# Altium footprint library Cap_TAN.PcbLib: 5 footprints
Each footprint in its own frame and in the unit in brackets; x right, y up, seen from the top. Pads: shape width x height; smd on the part's side, far side on the other; paste and mask are expansions set on the pad; w line width, h text height; cw(c..) or ccw(c..) is an arc to the next point about the centre after c.
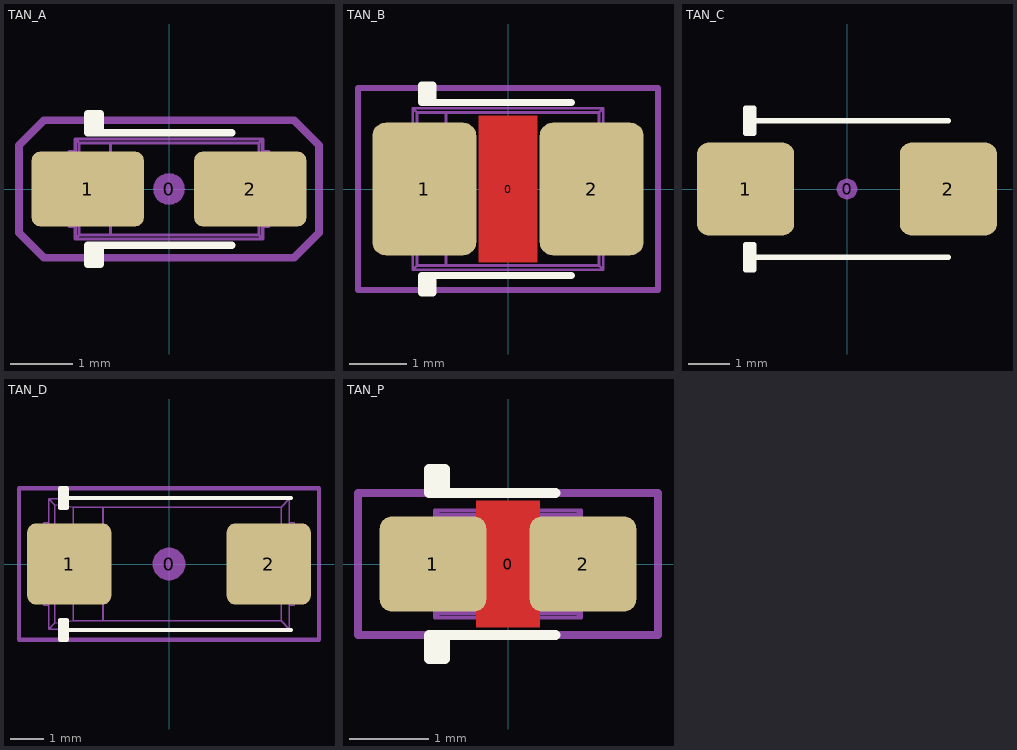
[diagram p0: the footprints below, top view; thin cyan lines are the x and y axes]

## TAN_A [mm] "Capacitor, polarized, Molded Body, EIA 535BAAC size A; 3.20mm L X 1.60mm W X 1.80mm H"
height 1.8
pads (3):
  round 0.508 on Mech15: 0(0,0)
  rrect25% 1.8x1.2 smd: 1(-1.3,0) 2(1.3,0)
Top Overlay:
  lines w0.127: -1.2,-1.2 -1.2,-0.9 ; -1.2,0.9 -1.2,1.2 ; -1.1,-0.9 -1.1,-1.2 -1.3,-1.2 -1.3,-0.9 1,-0.9 ; -1.1,0.9 -1.1,1.2 -1.3,1.2 -1.3,0.9 1,0.9
Mechanical 13:
  lines w0.05: -1.6,-0.36 -1.499,-0.36 ; -1.6,0.36 -1.499,0.36 ; -1.499,-0.6 -1.6,-0.6 -1.6,0.6 -1.499,0.6 ; -0.937,-0.737 -0.937,0.737 ; 1.499,-0.6 1.6,-0.6 1.6,0.6 1.499,0.6 ; 1.499,-0.36 1.6,-0.36 ; 1.499,0.36 1.6,0.36 ; -1.5,-0.8 -1.5,0.8 ; -1.5,-0.8 1.5,-0.8 ; -1.5,-0.8 -1.437,-0.737 ; -1.5,0.8 1.5,0.8 ; -1.5,0.8 -1.437,0.737 ; -1.437,-0.737 -1.437,0.737 ; -1.437,-0.737 1.437,-0.737 ; -1.437,0.737 1.437,0.737 ; 1.437,-0.737 1.437,0.737 ; 1.437,-0.737 1.5,-0.8 ; 1.437,0.737 1.5,0.8 ; 1.5,-0.8 1.5,0.8
Mechanical 15:
  lines w0.127: -2.4,-0.7 -2,-1.1 2,-1.1 2.4,-0.7 2.4,0.7 2,1.1 -2,1.1 -2.4,0.7 -2.4,-0.7
3D body: height 1.8, standoff 0, extent -1.6,-0.8 1.6,0.8

## TAN_B [mm] "Molded body capacitor, Body 3.5x2.8mm, 1210, IPC Nominal settings"
height 2.1
pads (3):
  round 0.254 on Mech15: 0(0,0)
  rrect25% 1.8x2.3 smd: 1(-1.45,0) 2(1.45,0)
Top Layer:
  pour cut-out: -0.508,1.27 0.508,1.27 0.508,-1.27 -0.508,-1.27
Top Overlay:
  lines w0.127: -1.4,-1.8 -1.4,-1.5 ; -1.4,1.5 -1.4,1.8 ; -1.3,-1.5 -1.3,-1.8 -1.5,-1.8 -1.5,-1.5 1.1,-1.5 ; -1.3,1.5 -1.3,1.8 -1.5,1.8 -1.5,1.5 1.1,1.5
Mechanical 13:
  lines w0.05: -1.75,-0.55 -1.65,-0.55 ; -1.75,0.55 -1.65,0.55 ; -1.65,-1.1 -1.75,-1.1 -1.75,1.1 -1.65,1.1 ; -1.077,-1.327 -1.077,1.327 ; 1.65,-1.1 1.75,-1.1 1.75,1.1 1.65,1.1 ; 1.65,-0.55 1.75,-0.55 ; 1.65,0.55 1.75,0.55 ; -1.65,-1.4 -1.577,-1.327 ; -1.65,-1.4 -1.65,1.4 ; -1.65,-1.4 1.65,-1.4 ; -1.65,1.4 -1.577,1.327 ; -1.65,1.4 1.65,1.4 ; -1.577,-1.327 -1.577,1.327 ; -1.577,-1.327 1.577,-1.327 ; -1.577,1.327 1.577,1.327 ; 1.577,-1.327 1.577,1.327 ; 1.577,-1.327 1.65,-1.4 ; 1.577,1.327 1.65,1.4 ; 1.65,-1.4 1.65,1.4
Mechanical 15:
  lines w0.1: -2.6,-1.75 -2.6,1.75 2.6,1.75 2.6,-1.75 -2.6,-1.75
3D body: height 2.1, standoff 0, extent -1.75,-1.4 1.75,1.4

## TAN_C [mm] "Capacitor, polarized, Molded Body, EIA 535BAAC size C; 6.00mm L X 3.20mm W X 2.80mm H"
height 2.8
pads (3):
  round 0.508 on Mech15: 0(0,0)
  rrect25% 2.35x2.25 smd: 1(-2.45,0) 2(2.45,0)
Top Overlay:
  lines w0.127: -2.45,-1.65 2.45,-1.65 ; -2.45,1.65 2.45,1.65 ; -2.35,-1.95 -2.35,-1.65 -2.35,-1.35 ; -2.35,1.35 -2.35,1.65 -2.35,1.95 ; -2.45,-1.95 -2.45,-1.35 -2.25,-1.35 -2.25,-1.65 -2.25,-1.95 -2.45,-1.95 ; -2.45,1.35 -2.45,1.95 -2.25,1.95 -2.25,1.65 -2.25,1.35 -2.45,1.35
3D body: height 2.8, standoff 0, extent -3,-1.6 3,1.6

## TAN_D [mm] "Molded body capacitor, Body 7.3x4.3mm, 2917, IPC Nominal settings"
height 3.1
pads (3):
  round 1 on Mech15: 0(0,0)
  rrect20% 2.55x2.45 smd: 1(-3.025,0) 2(3.025,0)
Top Overlay:
  lines w0.127: -3.3,-2 3.7,-2 ; -3.3,2 3.7,2 ; -3.2,-2.3 -3.2,-2 -3.2,-1.7 ; -3.2,1.7 -3.2,2 -3.2,2.3 ; -3.3,-2.3 -3.3,-1.7 -3.1,-1.7 -3.1,-2 -3.1,-2.3 -3.3,-2.3 ; -3.3,1.7 -3.3,2.3 -3.1,2.3 -3.1,2 -3.1,1.7 -3.3,1.7
Mechanical 13:
  lines w0.05: -3.8,-0.5 -3.65,-0.5 ; -3.8,0.5 -3.65,0.5 ; -3.67,-0.5 -3.67,0.5 ; -3.65,-1.25 -3.8,-1.25 -3.8,1.25 -3.65,1.25 ; -2.901,-0.575 -2.901,0.575 ; 3.65,-1.25 3.8,-1.25 3.8,1.25 3.65,1.25 ; 3.65,-0.5 3.8,-0.5 ; 3.65,0.5 3.8,0.5 ; 3.67,-0.5 3.67,0.5 ; -3.65,-1.975 -3.65,1.975 ; -3.65,-1.975 -3.471,-1.796 ; -3.65,-1.975 3.65,-1.975 ; -3.65,1.975 3.65,1.975 ; -3.65,1.975 -3.471,1.796 ; -3.471,-1.796 -3.471,1.796 ; -3.471,-1.796 -2.907,-1.727 ; -3.471,1.796 -2.907,1.727 ; -2.907,-1.727 -2.907,-0.575 -2.001,-0.575 -2.001,-1.727 ; -2.907,-1.727 -2.001,-1.727 ; -2.907,1.727 -2.907,0.575 -2.001,0.575 -2.001,1.727 ; -2.907,1.727 -2.001,1.727 ; -2.001,-1.727 3.401,-1.726 ; -2.001,1.727 3.401,1.726 ; 3.401,-1.726 3.401,1.726 ; 3.401,-1.726 3.65,-1.975 ; 3.401,1.726 3.65,1.975 ; 3.65,-1.975 3.65,1.975
Mechanical 15:
  lines w0.127: -4.55,-2.3 -4.55,2.3 4.55,2.3 4.55,-2.3 -4.55,-2.3
3D body: height 3.1, standoff 0, extent -3.8,-1.975 3.8,1.975

## TAN_P [mm] "Molded body capacitor, Body 2.0x1.2mm, 0805, IPC Medium Density"
height 1.5
pads (3):
  round 0.254 on Mech15: 0(0,0)
  rrect25% 1.35x1.2 smd: 1(-0.95,0) 2(0.95,0)
Top Layer:
  pour cut-out: -0.4,0.8 0.4,0.8 0.4,-0.8 -0.4,-0.8
Top Overlay:
  lines w0.127: -0.9,-1.2 -0.9,-0.9 ; -0.9,0.9 -0.9,1.2 ; -0.8,-0.9 -0.8,-1.2 -1,-1.2 -1,-0.9 0.6,-0.9 ; -0.8,0.9 -0.8,1.2 -1,1.2 -1,0.9 0.6,0.9
Mechanical 13:
  lines w0.05: -1.025,-0.25 -0.925,-0.25 ; -1.025,0.25 -0.925,0.25 ; -0.925,-0.5 -1.025,-0.5 -1.025,0.5 -0.925,0.5 ; -0.373,-0.623 -0.373,0.623 ; 0.925,-0.5 1.025,-0.5 1.025,0.5 0.925,0.5 ; 0.925,-0.25 1.025,-0.25 ; 0.925,0.25 1.025,0.25 ; -0.925,-0.675 0.925,-0.675 ; -0.925,-0.675 -0.925,0.675 ; -0.925,-0.675 -0.873,-0.623 ; -0.925,0.675 0.925,0.675 ; -0.925,0.675 -0.873,0.623 ; -0.873,-0.623 0.873,-0.623 ; -0.873,-0.623 -0.873,0.623 ; -0.873,0.623 0.873,0.623 ; 0.873,-0.623 0.925,-0.675 ; 0.873,-0.623 0.873,0.623 ; 0.873,0.623 0.925,0.675 ; 0.925,-0.675 0.925,0.675
Mechanical 15:
  lines w0.1: -1.9,-0.9 1.9,-0.9 1.9,0.9 -1.9,0.9 -1.9,-0.9
3D body: height 1.5, standoff 0, extent -1.025,-0.675 1.025,0.675